# Altium schematic symbol library Relays.SchLib: 1 symbol
Pins are listed as number, name and electrical type; pins without a type are passive.

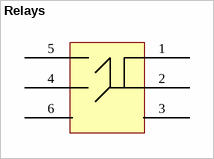
[diagram p0: symbol Relays]

## Relays
designator *  (value not drawn)
footprint Relays
pins: 1, 2, 3, 4, 5, 6